# Altium footprint library SIM868.PcbLib: 1 footprints
Each footprint in its own frame and in the unit in brackets; x right, y up, seen from the top. Pads: shape width x height; smd on the part's side, far side on the other; paste and mask are expansions set on the pad; w line width, h text height; cw(c..) or ccw(c..) is an arc to the next point about the centre after c.
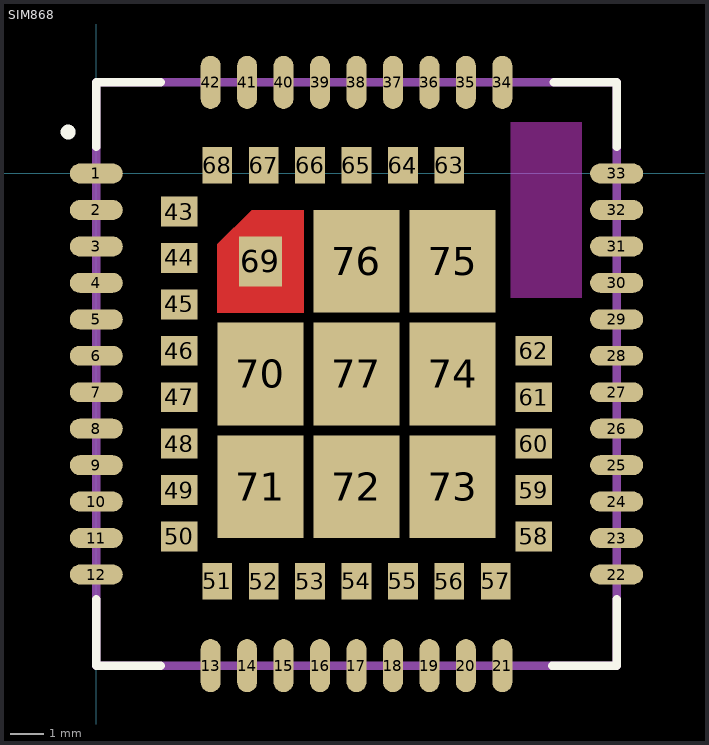
[diagram p0: the footprint, top view; thin cyan lines are the x and y axes]

## SIM868 [mm]
pads (77):
  oval 1.6x0.6 smd: 1(0,0) 2(0,-1.1) 3(0,-2.2) 4(0,-3.3) 5(0,-4.4) 6(0,-5.5) 7(0,-6.6) 8(0,-7.7) 9(0,-8.8) 10(0,-9.9) 11(0,-11) 12(0,-12.1) 22(15.7,-12.1) 23(15.7,-11) 24(15.7,-9.9) 25(15.7,-8.8) 26(15.7,-7.7) 27(15.7,-6.6) 28(15.7,-5.5) 29(15.7,-4.4) 30(15.7,-3.3) 31(15.7,-2.2) 32(15.7,-1.1) 33(15.7,0)
  oval 0.6x1.6 smd: 13(3.45,-14.85) 14(4.55,-14.85) 15(5.65,-14.85) 16(6.75,-14.85) 17(7.85,-14.85) 18(8.95,-14.85) 19(10.05,-14.85) 20(11.15,-14.85) 21(12.25,-14.85) 34(12.25,2.75) 35(11.15,2.75) 36(10.05,2.75) 37(8.95,2.75) 38(7.85,2.75) 39(6.75,2.75) 40(5.65,2.75) 41(4.55,2.75) 42(3.45,2.75)
  rect 1.1x0.9 smd: 43(2.5,-1.15) 44(2.5,-2.55) 45(2.5,-3.95) 46(2.5,-5.35) 47(2.5,-6.75) 48(2.5,-8.15) 49(2.5,-9.55) 50(2.5,-10.95) 58(13.2,-10.95) 59(13.2,-9.55) 60(13.2,-8.15) 61(13.2,-6.75) 62(13.2,-5.35)
  rect 0.9x1.1 smd: 51(3.65,-12.3) 52(5.05,-12.3) 53(6.45,-12.3) 54(7.85,-12.3) 55(9.25,-12.3) 56(10.65,-12.3) 57(12.05,-12.3) 63(10.65,0.25) 64(9.25,0.25) 65(7.85,0.25) 66(6.45,0.25) 67(5.05,0.25) 68(3.65,0.25)
  rect 1.3x1.505 smd: 69(4.95,-2.65)
  rect 2.6x3.1 smd: 70(4.95,-6.05) 71(4.95,-9.45) 72(7.85,-9.45) 73(10.75,-9.45) 74(10.75,-6.05) 75(10.75,-2.65) 76(7.85,-2.65) 77(7.85,-6.05)
Top Layer:
  region: 3.654,-4.202 3.654,-2.132 4.684,-1.102 6.254,-1.102 6.254,-4.202
Top Layer keep-out:
  rectangle: 12.5,-3.75 14.65,1.55
Top Overlay:
  circle w0.254: c-0.85,1.25 r0.1
  lines w0.254: 0,-12.85 0,-14.85 1.95,-14.85 ; 0,0.8 0,2.75 1.95,2.75 ; 13.75,-14.85 15.7,-14.85 15.7,-12.85 ; 13.8,2.75 15.7,2.75 15.7,0.8
TopAssy:
  lines w0.254: 0,-14.85 0,2.75 15.7,2.75 15.7,-14.85 0,-14.85
3D body "User Library-SIM868-1.step": height 2.5, standoff 0, extent 0,-14.85 15.7,2.75